# Altium schematic symbol library supply2.SCHLIB: 48 symbols
Pins are listed as number, name and electrical type; pins without a type are passive.

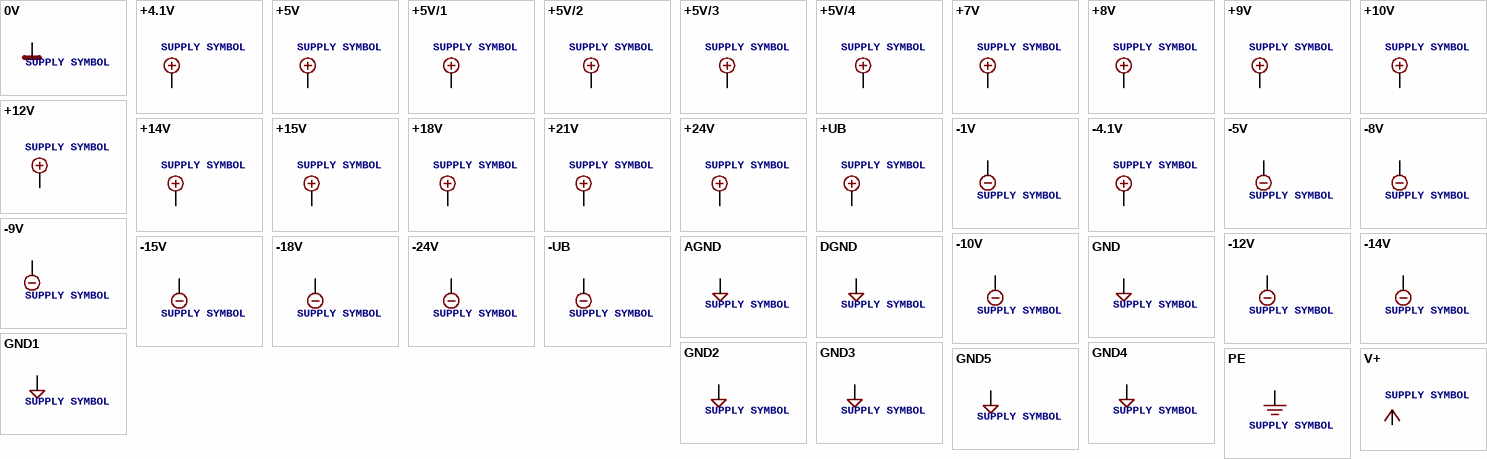
[diagram p0: symbols 0V to V+]

## 0V
designator SUPPLY?, comment SUPPLY SYMBOL
pins: ?1 0V (oe)

## +4.1V
designator SUPPLY?, comment SUPPLY SYMBOL
pins: ?1 +4.1V (oe)

## +5V
designator SUPPLY?, comment SUPPLY SYMBOL
pins: ?1 +5V (oe)

## +5V/1
designator SUPPLY?, comment SUPPLY SYMBOL
pins: ?1 +5V/1 (oe)

## +5V/2
designator SUPPLY?, comment SUPPLY SYMBOL
pins: ?1 +5V/2 (oe)

## +5V/3
designator SUPPLY?, comment SUPPLY SYMBOL
pins: ?1 +5V/3 (oe)

## +5V/4
designator SUPPLY?, comment SUPPLY SYMBOL
pins: ?1 +5V/4 (oe)

## +7V
designator SUPPLY?, comment SUPPLY SYMBOL
pins: ?1 +7V (oe)

## +8V
designator SUPPLY?, comment SUPPLY SYMBOL
pins: ?1 +8V (oe)

## +9V
designator SUPPLY?, comment SUPPLY SYMBOL
pins: ?1 +9V (oe)

## +10V
designator SUPPLY?, comment SUPPLY SYMBOL
pins: ?1 +10V (oe)

## +12V
designator SUPPLY?, comment SUPPLY SYMBOL
pins: ?1 +12V (oe)

## +14V
designator SUPPLY?, comment SUPPLY SYMBOL
pins: ?1 +14V (oe)

## +15V
designator SUPPLY?, comment SUPPLY SYMBOL
pins: ?1 +15V (oe)

## +18V
designator SUPPLY?, comment SUPPLY SYMBOL
pins: ?1 +18V (oe)

## +21V
designator SUPPLY?, comment SUPPLY SYMBOL
pins: ?1 +21V (oe)

## +24V
designator SUPPLY?, comment SUPPLY SYMBOL
pins: ?1 +24V (oe)

## +UB
designator SUPPLY?, comment SUPPLY SYMBOL
pins: ?1 +UB (oe)

## -1V
designator SUPPLY?, comment SUPPLY SYMBOL
pins: ?1 -1V (oe)

## -4.1V
designator SUPPLY?, comment SUPPLY SYMBOL
pins: ?1 -4.1V (oe)

## -5V
designator SUPPLY?, comment SUPPLY SYMBOL
pins: ?1 -5V (oe)

## -8V
designator SUPPLY?, comment SUPPLY SYMBOL
pins: ?1 -8V (oe)

## -9V
designator SUPPLY?, comment SUPPLY SYMBOL
pins: ?1 -9V (oe)

## -10V
designator SUPPLY?, comment SUPPLY SYMBOL
pins: ?1 -10V (oe)

## -12V
designator SUPPLY?, comment SUPPLY SYMBOL
pins: ?1 -12V (oe)

## -14V
designator SUPPLY?, comment SUPPLY SYMBOL
pins: ?1 -14V (oe)

## -15V
designator SUPPLY?, comment SUPPLY SYMBOL
pins: ?1 -15V (oe)

## -18V
designator SUPPLY?, comment SUPPLY SYMBOL
pins: ?1 -18V (oe)

## -24V
designator SUPPLY?, comment SUPPLY SYMBOL
pins: ?1 -24V (oe)

## -UB
designator SUPPLY?, comment SUPPLY SYMBOL
pins: ?1 -UB (oe)

## AGND
designator SUPPLY?, comment SUPPLY SYMBOL
pins: ?1 AGND (oe)

## DGND
designator SUPPLY?, comment SUPPLY SYMBOL
pins: ?1 DGND (oe)

## GND
designator SUPPLY?, comment SUPPLY SYMBOL
pins: ?1 GND (oe)

## GND1
designator SUPPLY?, comment SUPPLY SYMBOL
pins: ?1 GND1 (oe)

## GND2
designator SUPPLY?, comment SUPPLY SYMBOL
pins: ?1 GND2 (oe)

## GND3
designator SUPPLY?, comment SUPPLY SYMBOL
pins: ?1 GND3 (oe)

## GND4
designator SUPPLY?, comment SUPPLY SYMBOL
pins: ?1 GND4 (oe)

## GND5
designator SUPPLY?, comment SUPPLY SYMBOL
pins: ?1 GND5 (oe)

## PE
designator SUPPLY?, comment SUPPLY SYMBOL
pins: ?1 PE (oe)

## V+
designator SUPPLY?, comment SUPPLY SYMBOL
pins: ?1 V+ (oe)

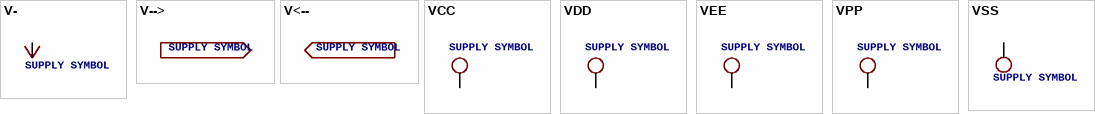
[diagram p1: symbols V- to VSS]

## V-
designator SUPPLY?, comment SUPPLY SYMBOL
pins: ?1 V- (oe)

## V-->
designator SUPPLY?, comment SUPPLY SYMBOL

## V<--
designator SUPPLY?, comment SUPPLY SYMBOL

## VCC
designator SUPPLY?, comment SUPPLY SYMBOL
pins: ?1 VCC (oe)

## VDD
designator SUPPLY?, comment SUPPLY SYMBOL
pins: ?1 VDD (oe)

## VEE
designator SUPPLY?, comment SUPPLY SYMBOL
pins: ?1 VEE (oe)

## VPP
designator SUPPLY?, comment SUPPLY SYMBOL
pins: ?1 VPP (oe)

## VSS
designator SUPPLY?, comment SUPPLY SYMBOL
pins: ?1 VSS (oe)